# Altium integrated library TLV6004IPWR.IntLib: 1 symbol
Pins are listed as number, name and electrical type; pins without a type are passive.

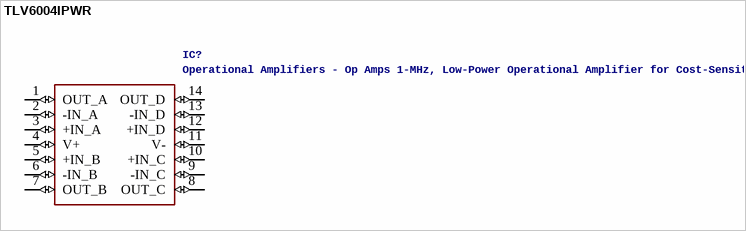
[diagram p0: symbol TLV6004IPWR]

## TLV6004IPWR
designator IC?, comment Operational Amplifiers - Op Amps 1-MHz, Low-Power Operational Amplifier for Cost-Sensitive Systems 14-TSSOP -40 to 125Source:  Datasheet
Manufacturer_Name: Texas Instruments; GateName_1: G$1; SymbolName_1: TLV6004IPWR; LibraryName: TLV6004IPWR; DeviceSetName: TLV6004IPWR; Package: SOP65P640X120-14N; TI_store_Part_Number: TLV6004IPWR; Manufacturer_Part_Number: TLV6004IPWR; Description: Operational Amplifiers - Op Amps 1-MHz, Low-Power Operational Amplifier for Cost-Sensitive Systems 14-TSSOP -40 to 125; Height: 1.2mm
footprint SOP65P640X120-14N
pins: 1 OUT_A (io), 2 -IN_A (io), 3 +IN_A (io), 4 V+ (io), 5 +IN_B (io), 6 -IN_B (io), 7 OUT_B (io), 8 OUT_C (io), 9 -IN_C (io), 10 +IN_C (io), 11 V- (io), 12 +IN_D (io), 13 -IN_D (io), 14 OUT_D (io)